# Altium footprint library TSOP32.PcbLib: 1 footprints
Each footprint in its own frame and in the unit in brackets; x right, y up, seen from the top. Pads: shape width x height; smd on the part's side, far side on the other; paste and mask are expansions set on the pad; w line width, h text height; cw(c..) or ccw(c..) is an arc to the next point about the centre after c.
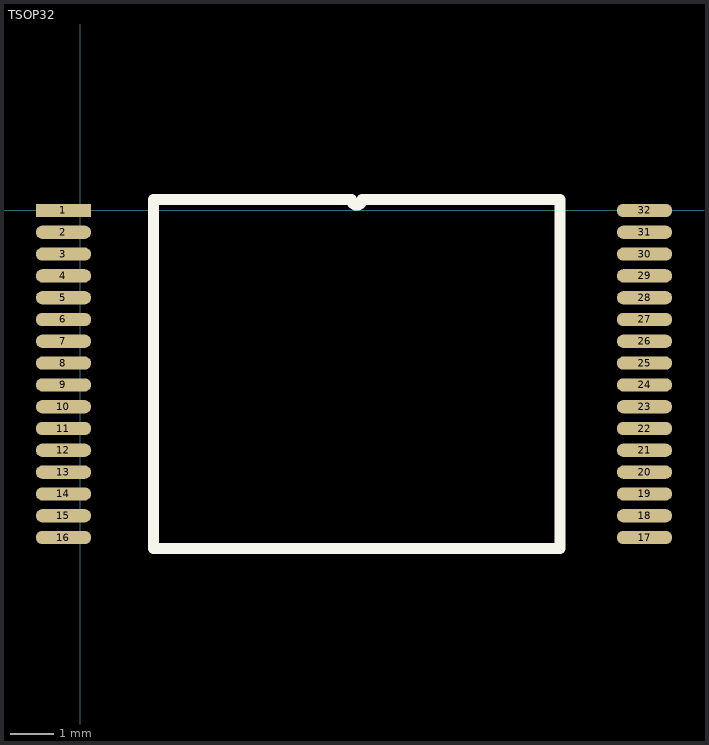
[diagram p0: the footprint, top view; thin cyan lines are the x and y axes]

## TSOP32 [mil]
pads (32):
  rect 50x12 smd: 1(-15,0)
  oval 50x12 smd: 2(-15,-19.7) 3(-15,-39.4) 4(-15,-59.1) 5(-15,-78.8) 6(-15,-98.5) 7(-15,-118.2) 8(-15,-137.9) 9(-15,-157.6) 10(-15,-177.3) 11(-15,-197) 12(-15,-216.7) 13(-15,-236.4) 14(-15,-256.1) 15(-15,-275.8) 16(-15,-295.5) 17(510,-295.5) 18(510,-275.8) 19(510,-256.1) 20(510,-236.4) 21(510,-216.7) 22(510,-197) 23(510,-177.3) 24(510,-157.6) 25(510,-137.9) 26(510,-118.2) 27(510,-98.5) 28(510,-78.8) 29(510,-59.1) 30(510,-39.4) 31(510,-19.7) 32(510,0)
Top Overlay:
  lines w10: 66.5,-305.35 66.5,9.85 245.07,9.85 ccw(c250,9.85) 254.93,9.85 433.5,9.85 433.5,-305.35 66.5,-305.35
3D body: height 60, standoff 0, extent 15,-310 480,15